# Altium schematic symbol library PlacaDeDezvoltareGenerala.SchLib: 6 symbols
Pins are listed as number, name and electrical type; pins without a type are passive.

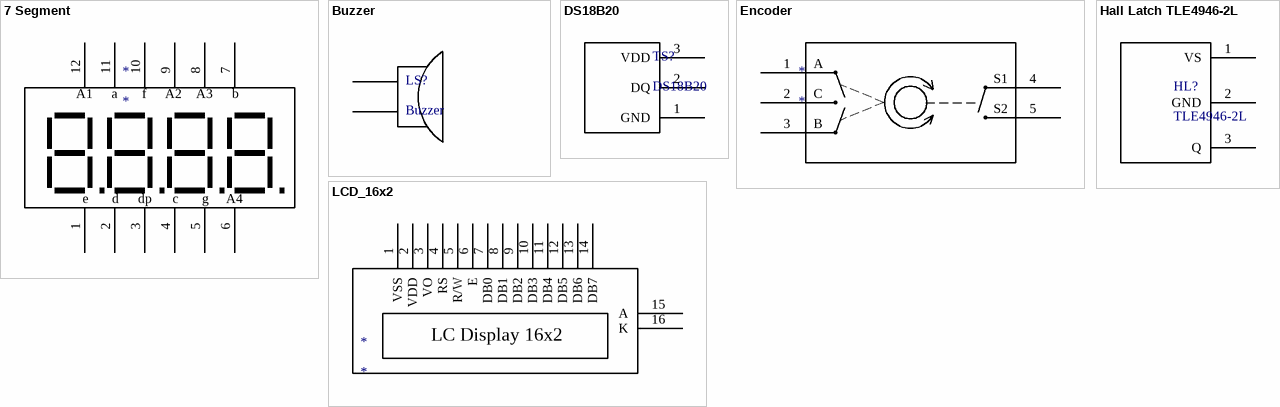
[diagram p0: symbols 7 Segment to LCD_16x2]

## 7 Segment
designator *
pins: 1 13, 2 14, 3 15, 4 16, 5 17, 6 18, 7 12, 8 11, 9 10, 10 9, 11 8, 12 7
text: A1; a; f; A2; A3; b; e; d; dp; c; g; A4

## Buzzer
designator LS?
pins: 1, 2

## DS18B20
designator TS?
pins: 1 GND, 2 DQ, 3 VDD

## Encoder
designator *
pins: 1 2, 2 3, 3 4, 4 5, 5 6
text: A; S1; C; S2; B

## Hall Latch TLE4946-2L
designator HL?, comment TLE4946-2L
pins: 1 VS, 2 GND, 3 Q

## LCD_16x2
designator *
pins: 1 VSS, 2 VDD, 3 VO, 4 RS, 5 R/W, 6 E, 7 DB0, 8 DB1, 9 DB2, 10 DB3, 11 DB4, 12 DB5, 13 DB6, 14 DB7, 15 A, 16 K
text: LC Display 16x2